# Altium footprint library Vowstar_MCU.PcbLib: 49 footprints (part 1 of 4)
Each footprint in its own frame and in the unit in brackets; x right, y up, seen from the top. Pads: shape width x height; smd on the part's side, far side on the other; paste and mask are expansions set on the pad; w line width, h text height; cw(c..) or ccw(c..) is an arc to the next point about the centre after c.
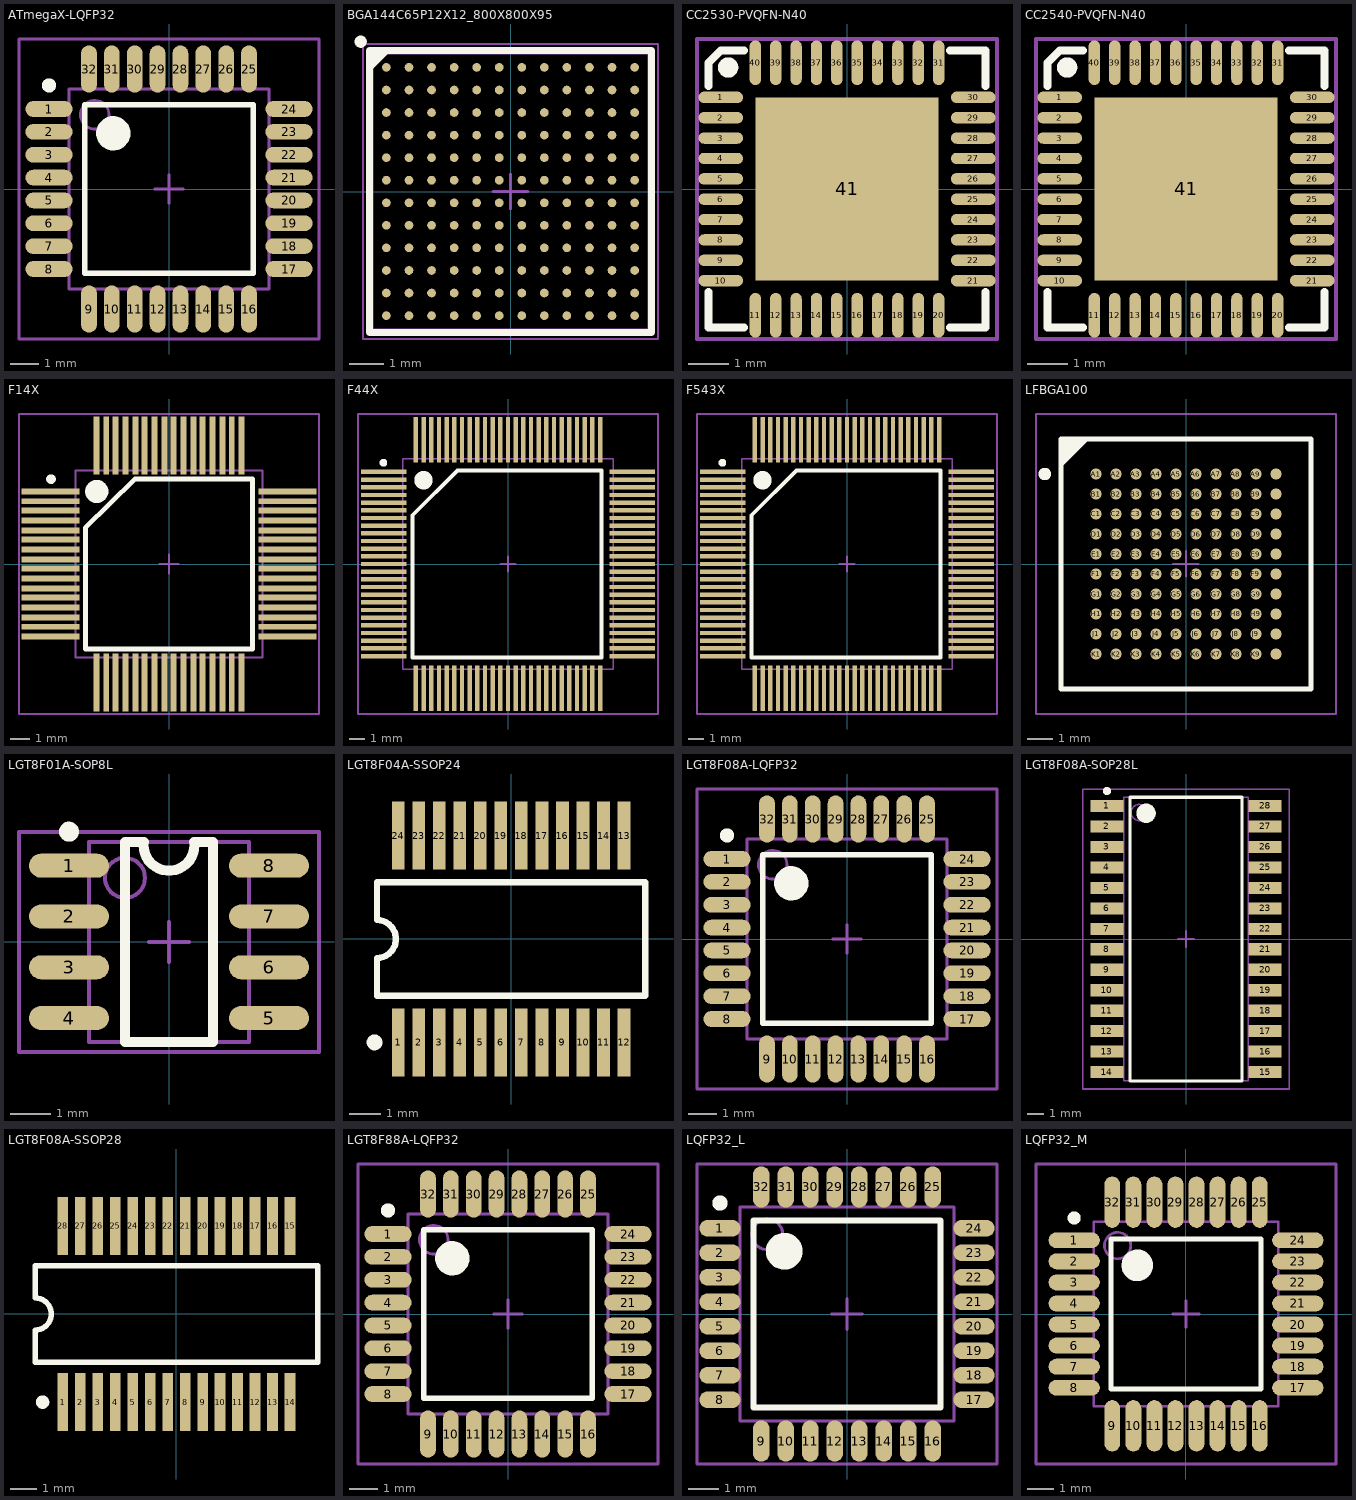
[diagram p0: the footprints below, top view; thin cyan lines are the x and y axes]

## ATmegaX-LQFP32 [mm] "Thin QFP, 32-Leads, Body 7x7mm, Pitch 0.8mm, IPC Medium Density"
height 1.2
pads (32):
  oval 1.65x0.55 smd: 1(-4.2,2.8) 2(-4.2,2) 3(-4.2,1.2) 4(-4.2,0.4) 5(-4.2,-0.4) 6(-4.2,-1.2) 7(-4.2,-2) 8(-4.2,-2.8) 17(4.2,-2.8) 18(4.2,-2) 19(4.2,-1.2) 20(4.2,-0.4) 21(4.2,0.4) 22(4.2,1.2) 23(4.2,2) 24(4.2,2.8)
  oval 0.55x1.65 smd: 9(-2.8,-4.2) 10(-2,-4.2) 11(-1.2,-4.2) 12(-0.4,-4.2) 13(0.4,-4.2) 14(1.2,-4.2) 15(2,-4.2) 16(2.8,-4.2) 25(2.8,4.2) 26(2,4.2) 27(1.2,4.2) 28(0.4,4.2) 29(-0.4,4.2) 30(-1.2,4.2) 31(-2,4.2) 32(-2.8,4.2)
Top Overlay:
  circle w0.25: c-4.2,3.625 r0.125
  circle w0.6: c-1.95,1.95 r0.3
  lines w0.2: -2.95,-2.95 -2.95,2.95 2.95,2.95 2.95,-2.95 -2.95,-2.95
Mechanical 13:
  circle w0.1: c-2.6,2.6 r0.5
  lines w0.1: -3.5,-3.5 -3.5,3.5 3.5,3.5 3.5,-3.5 -3.5,-3.5
Mechanical 15:
  lines w0.1: -0.5,0 0.5,0 ; 0,-0.5 0,0.5 ; -5.25,-5.25 -5.25,5.25 5.25,5.25 5.25,-5.25 -5.25,-5.25
3D body "User Library-LQFP-32.STEP": height 1.63, standoff -0.09, extent -4.5,-4.521 4.5,4.479

## BGA144C65P12X12_800X800X95 [mm] "BGA, 144-Leads, Body 8.00x8.00mmx0.95mm, Pitch 0.65mm"
height 0.96
pads (144):
  round 0.25 smd mask+0.051: A1(-3.575,3.575) A2(-2.925,3.575) A3(-2.275,3.575) A4(-1.625,3.575) A5(-0.975,3.575) A6(-0.325,3.575) A7(0.325,3.575) A8(0.975,3.575) A9(1.625,3.575) A10(2.275,3.575) A11(2.925,3.575) A12(3.575,3.575) B1(-3.575,2.925) B2(-2.925,2.925) B3(-2.275,2.925) B4(-1.625,2.925) B5(-0.975,2.925) B6(-0.325,2.925) B7(0.325,2.925) B8(0.975,2.925) B9(1.625,2.925) B10(2.275,2.925) B11(2.925,2.925) B12(3.575,2.925) C1(-3.575,2.275) C2(-2.925,2.275) C3(-2.275,2.275) C4(-1.625,2.275) C5(-0.975,2.275) C6(-0.325,2.275) C7(0.325,2.275) C8(0.975,2.275) C9(1.625,2.275) C10(2.275,2.275) C11(2.925,2.275) C12(3.575,2.275) D1(-3.575,1.625) D2(-2.925,1.625) D3(-2.275,1.625) D4(-1.625,1.625) D5(-0.975,1.625) D6(-0.325,1.625) D7(0.325,1.625) D8(0.975,1.625) D9(1.625,1.625) D10(2.275,1.625) D11(2.925,1.625) D12(3.575,1.625) E1(-3.575,0.975) E2(-2.925,0.975) E3(-2.275,0.975) E4(-1.625,0.975) E5(-0.975,0.975) E6(-0.325,0.975) E7(0.325,0.975) E8(0.975,0.975) E9(1.625,0.975) E10(2.275,0.975) E11(2.925,0.975) E12(3.575,0.975) F1(-3.575,0.325) F2(-2.925,0.325) F3(-2.275,0.325) F4(-1.625,0.325) F5(-0.975,0.325) F6(-0.325,0.325) F7(0.325,0.325) F8(0.975,0.325) F9(1.625,0.325) F10(2.275,0.325) F11(2.925,0.325) F12(3.575,0.325) G1(-3.575,-0.325) G2(-2.925,-0.325) G3(-2.275,-0.325) G4(-1.625,-0.325) G5(-0.975,-0.325) G6(-0.325,-0.325) G7(0.325,-0.325) G8(0.975,-0.325) G9(1.625,-0.325) G10(2.275,-0.325) G11(2.925,-0.325) G12(3.575,-0.325) H1(-3.575,-0.975) H2(-2.925,-0.975) H3(-2.275,-0.975) H4(-1.625,-0.975) H5(-0.975,-0.975) H6(-0.325,-0.975) H7(0.325,-0.975) H8(0.975,-0.975) H9(1.625,-0.975) H10(2.275,-0.975) H11(2.925,-0.975) H12(3.575,-0.975) J1(-3.575,-1.625) J2(-2.925,-1.625) J3(-2.275,-1.625) J4(-1.625,-1.625) J5(-0.975,-1.625) J6(-0.325,-1.625) J7(0.325,-1.625) J8(0.975,-1.625) J9(1.625,-1.625) J10(2.275,-1.625) J11(2.925,-1.625) J12(3.575,-1.625) K1(-3.575,-2.275) K2(-2.925,-2.275) K3(-2.275,-2.275) K4(-1.625,-2.275) K5(-0.975,-2.275) K6(-0.325,-2.275) K7(0.325,-2.275) K8(0.975,-2.275) K9(1.625,-2.275) K10(2.275,-2.275) K11(2.925,-2.275) K12(3.575,-2.275) L1(-3.575,-2.925) L2(-2.925,-2.925) L3(-2.275,-2.925) L4(-1.625,-2.925) L5(-0.975,-2.925) L6(-0.325,-2.925) L7(0.325,-2.925) L8(0.975,-2.925) L9(1.625,-2.925) L10(2.275,-2.925) L11(2.925,-2.925) L12(3.575,-2.925) M1(-3.575,-3.575) M2(-2.925,-3.575) M3(-2.275,-3.575) M4(-1.625,-3.575) M5(-0.975,-3.575) M6(-0.325,-3.575) M7(0.325,-3.575) M8(0.975,-3.575) M9(1.625,-3.575) M10(2.275,-3.575) M11(2.925,-3.575) M12(3.575,-3.575)
Top Overlay:
  circle w0.2: c-4.318,4.318 r0.076
  region: -4.064,4.064 -3.429,4.064 -4.064,3.429
  lines w0.2: -4.064,-4.064 4.064,-4.064 4.064,4.064 -4.064,4.064 -4.064,-4.064
Mechanical 13:
  lines w0.1: -4,-4 -4,4 4,4 4,-4 -4,-4
Mechanical 15:
  lines w0.05: -4.25,-4.25 4.25,-4.25 4.25,4.25 -4.25,4.25 -4.25,-4.25
  lines w0.1: -0.5,0 0.5,0 ; 0,-0.5 0,0.5
3D body "BGA144C65P12X12_800X800X95.step": height 0.95, standoff 0.01, extent -4,-4 4,4

## CC2530-PVQFN-N40 [mm] "CC2530"
pads (41):
  oval 1.1x0.28 smd: 1(-3.1,2.25) 2(-3.1,1.75) 3(-3.1,1.25) 4(-3.1,0.75) 5(-3.1,0.25) 6(-3.1,-0.25) 7(-3.1,-0.75) 8(-3.1,-1.25) 9(-3.1,-1.75) 10(-3.1,-2.25) 21(3.1,-2.25) 22(3.1,-1.75) 23(3.1,-1.25) 24(3.1,-0.75) 25(3.1,-0.25) 26(3.1,0.25) 27(3.1,0.75) 28(3.1,1.25) 29(3.1,1.75) 30(3.1,2.25)
  oval 0.28x1.1 smd: 11(-2.25,-3.1) 12(-1.75,-3.1) 13(-1.25,-3.1) 14(-0.75,-3.1) 15(-0.25,-3.1) 16(0.25,-3.1) 17(0.75,-3.1) 18(1.25,-3.1) 19(1.75,-3.1) 20(2.25,-3.1) 31(2.25,3.1) 32(1.75,3.1) 33(1.25,3.1) 34(0.75,3.1) 35(0.25,3.1) 36(-0.25,3.1) 37(-0.75,3.1) 38(-1.25,3.1) 39(-1.75,3.1) 40(-2.25,3.1)
  rect 4.5x4.5 smd: 41(0,0)
Top Overlay:
  circle w0.25: c-2.919,2.984 r0.125
  lines w0.2: -3.4,-2.53 -3.4,-3.4 -2.53,-3.4 ; -3.4,2.53 -3.4,3.1 -3.1,3.4 -2.53,3.4 ; 2.53,-3.4 3.4,-3.4 3.4,-2.53 ; 2.53,3.4 3.4,3.4 3.4,2.53
Mechanical 15:
  lines w0.1: -0.5,0 0.5,0 ; 0,-0.5 0,0.5 ; -3.683,-3.683 3.683,-3.683 3.683,3.683 -3.683,3.683 -3.683,-3.683
3D body "User Library-QFN-40.STEP": height 1.02, standoff -0.03, extent -3.048,-3.075 3.102,3.075

## CC2540-PVQFN-N40 [mm] "CC2540"
pads (41):
  oval 1.1x0.28 smd: 1(-3.1,2.25) 2(-3.1,1.75) 3(-3.1,1.25) 4(-3.1,0.75) 5(-3.1,0.25) 6(-3.1,-0.25) 7(-3.1,-0.75) 8(-3.1,-1.25) 9(-3.1,-1.75) 10(-3.1,-2.25) 21(3.1,-2.25) 22(3.1,-1.75) 23(3.1,-1.25) 24(3.1,-0.75) 25(3.1,-0.25) 26(3.1,0.25) 27(3.1,0.75) 28(3.1,1.25) 29(3.1,1.75) 30(3.1,2.25)
  oval 0.28x1.1 smd: 11(-2.25,-3.1) 12(-1.75,-3.1) 13(-1.25,-3.1) 14(-0.75,-3.1) 15(-0.25,-3.1) 16(0.25,-3.1) 17(0.75,-3.1) 18(1.25,-3.1) 19(1.75,-3.1) 20(2.25,-3.1) 31(2.25,3.1) 32(1.75,3.1) 33(1.25,3.1) 34(0.75,3.1) 35(0.25,3.1) 36(-0.25,3.1) 37(-0.75,3.1) 38(-1.25,3.1) 39(-1.75,3.1) 40(-2.25,3.1)
  rect 4.5x4.5 smd: 41(0,0)
Top Overlay:
  circle w0.25: c-2.919,2.984 r0.125
  lines w0.2: -3.4,-2.53 -3.4,-3.4 -2.53,-3.4 ; -3.4,2.53 -3.4,3.1 -3.1,3.4 -2.53,3.4 ; 2.53,-3.4 3.4,-3.4 3.4,-2.53 ; 2.53,3.4 3.4,3.4 3.4,2.53
Mechanical 15:
  lines w0.1: -0.5,0 0.5,0 ; 0,-0.5 0,0.5 ; -3.683,-3.683 -3.683,3.683 3.683,3.683 3.683,-3.683 -3.683,-3.683
3D body "User Library-QFN-40.STEP": height 1.02, standoff -0.03, extent -3.048,-3.075 3.102,3.075

## F14X [mil] "msp430f149"
height 41.34
pads (64):
  rect 118x12 smd: 1(-240.5,147.5) 2(-240.5,127.5) 3(-240.5,108.5) 4(-240.5,88.5) 5(-240.5,68.5) 6(-240.5,49.5) 7(-240.5,29.5) 8(-240.5,9.5) 9(-240.5,-9.5) 10(-240.5,-29.5) 11(-240.5,-49.5) 12(-240.5,-68.5) 13(-240.5,-88.5) 14(-240.5,-108.5) 15(-240.5,-127.5) 16(-240.5,-147.5) 33(240.5,-147.5) 34(240.5,-127.5) 35(240.5,-108.5) 36(240.5,-88.5) 37(240.5,-68.5) 38(240.5,-49.5) 39(240.5,-29.5) 40(240.5,-9.5) 41(240.5,9.5) 42(240.5,29.5) 43(240.5,49.5) 44(240.5,68.5) 45(240.5,88.5) 46(240.5,108.5) 47(240.5,127.5) 48(240.5,147.5)
  rect 12x118 smd: 17(-147.5,-240.5) 18(-127.5,-240.5) 19(-108.5,-240.5) 20(-88.5,-240.5) 21(-68.5,-240.5) 22(-49.5,-240.5) 23(-29.5,-240.5) 24(-9.5,-240.5) 25(9.5,-240.5) 26(29.5,-240.5) 27(49.5,-240.5) 28(68.5,-240.5) 29(88.5,-240.5) 30(108.5,-240.5) 31(127.5,-240.5) 32(147.5,-240.5) 49(147.5,240.5) 50(127.5,240.5) 51(108.5,240.5) 52(88.5,240.5) 53(68.5,240.5) 54(49.5,240.5) 55(29.5,240.5) 56(9.5,240.5) 57(-9.5,240.5) 58(-29.5,240.5) 59(-49.5,240.5) 60(-68.5,240.5) 61(-88.5,240.5) 62(-108.5,240.5) 63(-127.5,240.5) 64(-147.5,240.5)
Top Overlay:
  circle w9.84: c-239.92,172.5 r4.92
  circle w23.62: c-146.81,147.5 r11.81
  lines w10: -170,-172.5 170,-172.5 170,172.5 -69.24,172.5 -170,73.62 -170,-172.5
Mechanical 13:
  lines w3.94: -190,-190 -190,190 190,190 190,-190 -190,-190
Mechanical 15:
  lines w3.94: -19.69,0 19.68,0 ; 0,-19.68 0,19.69 ; -305,-305 -305,305 305,305 305,-305 -305,-305
3D body "User Library-QFP-64.step": height 53.15, standoff 0, extent -236.77,-237.54 236.77,236

## F44X [mm] "msp430f449"
height 1.45
pads (100):
  rect 2.997x0.29 smd: 1(-8.1,6) 2(-8.1,5.5) 3(-8.1,5) 4(-8.1,4.5) 5(-8.1,4) 6(-8.1,3.5) 7(-8.1,3) 8(-8.1,2.5) 9(-8.1,2) 10(-8.1,1.5) 11(-8.1,1) 12(-8.1,0.5) 13(-8.1,0) 14(-8.1,-0.5) 15(-8.1,-1) 16(-8.1,-1.5) 17(-8.1,-2) 18(-8.1,-2.5) 19(-8.1,-3) 20(-8.1,-3.5) 21(-8.1,-4) 22(-8.1,-4.5) 23(-8.1,-5) 24(-8.1,-5.5) 25(-8.1,-6) 51(8.1,-6) 52(8.1,-5.5) 53(8.1,-5) 54(8.1,-4.5) 55(8.1,-4) 56(8.1,-3.5) 57(8.1,-3) 58(8.1,-2.5) 59(8.1,-2) 60(8.1,-1.5) 61(8.1,-1) 62(8.1,-0.5) 63(8.1,0) 64(8.1,0.5) 65(8.1,1) 66(8.1,1.5) 67(8.1,2) 68(8.1,2.5) 69(8.1,3) 70(8.1,3.5) 71(8.1,4) 72(8.1,4.5) 73(8.1,5) 74(8.1,5.5) 75(8.1,6)
  rect 0.29x2.997 smd: 26(-6,-8.1) 27(-5.5,-8.1) 28(-5,-8.1) 29(-4.5,-8.1) 30(-4,-8.1) 31(-3.5,-8.1) 32(-3,-8.1) 33(-2.5,-8.1) 34(-2,-8.1) 35(-1.5,-8.1) 36(-1,-8.1) 37(-0.5,-8.1) 38(0,-8.1) 39(0.5,-8.1) 40(1,-8.1) 41(1.5,-8.1) 42(2,-8.1) 43(2.5,-8.1) 44(3,-8.1) 45(3.5,-8.1) 46(4,-8.1) 47(4.5,-8.1) 48(5,-8.1) 49(5.5,-8.1) 50(6,-8.1) 76(6,8.1) 77(5.5,8.1) 78(5,8.1) 79(4.5,8.1) 80(4,8.1) 81(3.5,8.1) 82(3,8.1) 83(2.5,8.1) 84(2,8.1) 85(1.5,8.1) 86(1,8.1) 87(0.5,8.1) 88(0,8.1) 89(-0.5,8.1) 90(-1,8.1) 91(-1.5,8.1) 92(-2,8.1) 93(-2.5,8.1) 94(-3,8.1) 95(-3.5,8.1) 96(-4,8.1) 97(-4.5,8.1) 98(-5,8.1) 99(-5.5,8.1) 100(-6,8.1)
Top Overlay:
  circle w0.25: c-8.126,6.604 r0.125
  circle w0.6: c-5.507,5.461 r0.3
  lines w0.254: -6.223,-6.096 6.096,-6.096 6.096,6.096 -3.302,6.096 -6.223,3.175 -6.223,-6.096
Mechanical 13:
  lines w0.1: -6.858,-6.858 -6.858,6.858 6.858,6.858 6.858,-6.858 -6.858,-6.858
Mechanical 15:
  lines w0.1: -0.5,0 0.5,0 ; 0,-0.5 0,0.5 ; -9.779,-9.779 9.779,-9.779 9.779,9.779 -9.779,9.779 -9.779,-9.779
3D body "User Library-QFP-100.step": height 2.6, standoff 0, extent -8.314,-8.382 8.314,8.246
3D body: height 0.25, standoff 0, extent -6.858,-6.858 6.858,6.858
3D body: height 0.28, standoff 0, extent -5.84,5.335 -5.334,5.841

## F543X [mm] "msp430f5438"
height 1.45
pads (100):
  rect 2.997x0.29 smd: 1(-8.1,6) 2(-8.1,5.5) 3(-8.1,5) 4(-8.1,4.5) 5(-8.1,4) 6(-8.1,3.5) 7(-8.1,3) 8(-8.1,2.5) 9(-8.1,2) 10(-8.1,1.5) 11(-8.1,1) 12(-8.1,0.5) 13(-8.1,0) 14(-8.1,-0.5) 15(-8.1,-1) 16(-8.1,-1.5) 17(-8.1,-2) 18(-8.1,-2.5) 19(-8.1,-3) 20(-8.1,-3.5) 21(-8.1,-4) 22(-8.1,-4.5) 23(-8.1,-5) 24(-8.1,-5.5) 25(-8.1,-6) 51(8.1,-6) 52(8.1,-5.5) 53(8.1,-5) 54(8.1,-4.5) 55(8.1,-4) 56(8.1,-3.5) 57(8.1,-3) 58(8.1,-2.5) 59(8.1,-2) 60(8.1,-1.5) 61(8.1,-1) 62(8.1,-0.5) 63(8.1,0) 64(8.1,0.5) 65(8.1,1) 66(8.1,1.5) 67(8.1,2) 68(8.1,2.5) 69(8.1,3) 70(8.1,3.5) 71(8.1,4) 72(8.1,4.5) 73(8.1,5) 74(8.1,5.5) 75(8.1,6)
  rect 0.29x2.997 smd: 26(-6,-8.1) 27(-5.5,-8.1) 28(-5,-8.1) 29(-4.5,-8.1) 30(-4,-8.1) 31(-3.5,-8.1) 32(-3,-8.1) 33(-2.5,-8.1) 34(-2,-8.1) 35(-1.5,-8.1) 36(-1,-8.1) 37(-0.5,-8.1) 38(0,-8.1) 39(0.5,-8.1) 40(1,-8.1) 41(1.5,-8.1) 42(2,-8.1) 43(2.5,-8.1) 44(3,-8.1) 45(3.5,-8.1) 46(4,-8.1) 47(4.5,-8.1) 48(5,-8.1) 49(5.5,-8.1) 50(6,-8.1) 76(6,8.1) 77(5.5,8.1) 78(5,8.1) 79(4.5,8.1) 80(4,8.1) 81(3.5,8.1) 82(3,8.1) 83(2.5,8.1) 84(2,8.1) 85(1.5,8.1) 86(1,8.1) 87(0.5,8.1) 88(0,8.1) 89(-0.5,8.1) 90(-1,8.1) 91(-1.5,8.1) 92(-2,8.1) 93(-2.5,8.1) 94(-3,8.1) 95(-3.5,8.1) 96(-4,8.1) 97(-4.5,8.1) 98(-5,8.1) 99(-5.5,8.1) 100(-6,8.1)
Top Overlay:
  circle w0.6: c-5.507,5.461 r0.3
  circle w0.25: c-8.126,6.604 r0.125
  lines w0.254: -6.223,-6.096 -6.223,3.175 -3.302,6.096 6.096,6.096 6.096,-6.096 -6.223,-6.096
Mechanical 13:
  lines w0.1: -6.858,-6.858 6.858,-6.858 6.858,6.858 -6.858,6.858 -6.858,-6.858
Mechanical 15:
  lines w0.1: -0.5,0 0.5,0 ; 0,-0.5 0,0.5 ; -9.779,-9.779 -9.779,9.779 9.779,9.779 9.779,-9.779 -9.779,-9.779
3D body "User Library-QFP-100.step": height 2.6, standoff 0, extent -8.314,-8.382 8.314,8.246
3D body: height 0.28, standoff 0, extent -5.84,5.335 -5.334,5.841

## LFBGA100 [mm] "BGA, 100-Leads, Body 10x10mm, Pitch 0.8mm"
height 1.7
pads (100):
  round 0.45 smd: A1(-3.6,3.6) A2(-2.8,3.6) A3(-2,3.6) A4(-1.2,3.6) A5(-0.4,3.6) A6(0.4,3.6) A7(1.2,3.6) A8(2,3.6) A9(2.8,3.6) A10(3.6,3.6) B1(-3.6,2.8) B2(-2.8,2.8) B3(-2,2.8) B4(-1.2,2.8) B5(-0.4,2.8) B6(0.4,2.8) B7(1.2,2.8) B8(2,2.8) B9(2.8,2.8) B10(3.6,2.8) C1(-3.6,2) C2(-2.8,2) C3(-2,2) C4(-1.2,2) C5(-0.4,2) C6(0.4,2) C7(1.2,2) C8(2,2) C9(2.8,2) C10(3.6,2) D1(-3.6,1.2) D2(-2.8,1.2) D3(-2,1.2) D4(-1.2,1.2) D5(-0.4,1.2) D6(0.4,1.2) D7(1.2,1.2) D8(2,1.2) D9(2.8,1.2) D10(3.6,1.2) E1(-3.6,0.4) E2(-2.8,0.4) E3(-2,0.4) E4(-1.2,0.4) E5(-0.4,0.4) E6(0.4,0.4) E7(1.2,0.4) E8(2,0.4) E9(2.8,0.4) E10(3.6,0.4) F1(-3.6,-0.4) F2(-2.8,-0.4) F3(-2,-0.4) F4(-1.2,-0.4) F5(-0.4,-0.4) F6(0.4,-0.4) F7(1.2,-0.4) F8(2,-0.4) F9(2.8,-0.4) F10(3.6,-0.4) G1(-3.6,-1.2) G2(-2.8,-1.2) G3(-2,-1.2) G4(-1.2,-1.2) G5(-0.4,-1.2) G6(0.4,-1.2) G7(1.2,-1.2) G8(2,-1.2) G9(2.8,-1.2) G10(3.6,-1.2) H1(-3.6,-2) H2(-2.8,-2) H3(-2,-2) H4(-1.2,-2) H5(-0.4,-2) H6(0.4,-2) H7(1.2,-2) H8(2,-2) H9(2.8,-2) H10(3.6,-2) J1(-3.6,-2.8) J2(-2.8,-2.8) J3(-2,-2.8) J4(-1.2,-2.8) J5(-0.4,-2.8) J6(0.4,-2.8) J7(1.2,-2.8) J8(2,-2.8) J9(2.8,-2.8) J10(3.6,-2.8) K1(-3.6,-3.6) K2(-2.8,-3.6) K3(-2,-3.6) K4(-1.2,-3.6) K5(-0.4,-3.6) K6(0.4,-3.6) K7(1.2,-3.6) K8(2,-3.6) K9(2.8,-3.6) K10(3.6,-3.6)
Top Overlay:
  circle w0.25: c-5.65,3.6 r0.125
  region: -4,5 -5,4 -5,5
  lines w0.2: -5,4 -4,5 ; -5,-5 -5,5 5,5 5,-5 -5,-5
Mechanical 13:
  lines w0.1: -5,-5 -5,5 5,5 5,-5 -5,-5
Mechanical 15:
  lines w0.1: -0.5,0 0.5,0 ; 0,-0.5 0,0.5 ; -6,-6 -6,6 6,6 6,-6 -6,-6
3D body: height 1.7, standoff 0, extent -5,-5 5,5

## LGT8F01A-SOP8L [mm] "LGT8F01A-SOP8L"
height 1.5
pads (8):
  oval 2x0.6 smd: 1(-2.5,1.905) 2(-2.5,0.635) 3(-2.5,-0.635) 4(-2.5,-1.905) 5(2.5,-1.905) 6(2.5,-0.635) 7(2.5,0.635) 8(2.5,1.905)
Top Overlay:
  circle w0.25: c-2.5,2.755 r0.125
  lines w0.254: -1.1,-2.5 1.1,-2.5 ; -1.1,-2.489 -1.1,2.5 -0.626,2.5 ; -0.635,2.413 ccw(c0,2.413) 0.635,2.413 ; 0.626,2.5 1.1,2.5 1.1,-2.489
Mechanical 13:
  circle w0.1: c-1.1,1.6 r0.5
  lines w0.1: -2,-2.5 -2,2.5 2,2.5 2,-2.5 -2,-2.5
Mechanical 15:
  lines w0.1: -0.5,0 0.5,0 ; 0,-0.5 0,0.5 ; -3.75,-2.75 -3.75,2.75 3.75,2.75 3.75,-2.75 -3.75,-2.75
3D body "User Library-SOP-8.step": height 1.45, standoff 0, extent -2.921,-2.451 2.857,2.451

## LGT8F04A-SSOP24 [mm] "SSOP, Plastic; 24 Leads; Body Width 5.3 mm; Pitch 0.65 mm"
height 2
pads (24):
  rect 0.4x2.15 smd: 1(-3.575,-3.275) 2(-2.925,-3.275) 3(-2.275,-3.275) 4(-1.625,-3.275) 5(-0.975,-3.275) 6(-0.325,-3.275) 7(0.325,-3.275) 8(0.975,-3.275) 9(1.625,-3.275) 10(2.275,-3.275) 11(2.925,-3.275) 12(3.575,-3.275) 13(3.575,3.275) 14(2.925,3.275) 15(2.275,3.275) 16(1.625,3.275) 17(0.975,3.275) 18(0.325,3.275) 19(-0.325,3.275) 20(-0.975,3.275) 21(-1.625,3.275) 22(-2.275,3.275) 23(-2.925,3.275) 24(-3.575,3.275)
Top Overlay:
  circle w0.25: c-4.325,-3.275 r0.125
  lines w0.2: -4.25,-1.8 4.25,-1.8 4.25,1.8 -4.25,1.8 -4.25,0.6 cw(c-4.25,0) -4.25,-0.6 -4.25,-1.8

## LGT8F08A-LQFP32 [mm] "32-Pin Thin Quad Flat Pack 0.8 mm Pitch, IPC Medium Density"
height 1.2
pads (32):
  oval 1.65x0.55 smd: 1(-4.2,2.8) 2(-4.2,2) 3(-4.2,1.2) 4(-4.2,0.4) 5(-4.2,-0.4) 6(-4.2,-1.2) 7(-4.2,-2) 8(-4.2,-2.8) 17(4.2,-2.8) 18(4.2,-2) 19(4.2,-1.2) 20(4.2,-0.4) 21(4.2,0.4) 22(4.2,1.2) 23(4.2,2) 24(4.2,2.8)
  oval 0.55x1.65 smd: 9(-2.8,-4.2) 10(-2,-4.2) 11(-1.2,-4.2) 12(-0.4,-4.2) 13(0.4,-4.2) 14(1.2,-4.2) 15(2,-4.2) 16(2.8,-4.2) 25(2.8,4.2) 26(2,4.2) 27(1.2,4.2) 28(0.4,4.2) 29(-0.4,4.2) 30(-1.2,4.2) 31(-2,4.2) 32(-2.8,4.2)
Top Overlay:
  circle w0.25: c-4.2,3.625 r0.125
  circle w0.6: c-1.95,1.95 r0.3
  lines w0.2: -2.95,-2.95 -2.95,2.95 2.95,2.95 2.95,-2.95 -2.95,-2.95
Mechanical 13:
  circle w0.1: c-2.6,2.6 r0.5
  lines w0.1: -3.5,-3.5 -3.5,3.5 3.5,3.5 3.5,-3.5 -3.5,-3.5
Mechanical 15:
  lines w0.1: -0.5,0 0.5,0 ; 0,-0.5 0,0.5 ; -5.25,-5.25 -5.25,5.25 5.25,5.25 5.25,-5.25 -5.25,-5.25
3D body "User Library-LQFP-32.STEP": height 1.63, standoff -0.09, extent -4.5,-4.521 4.5,4.479

## LGT8F08A-SOP28L [mm] "SOP, 28-Leads, Body 17.6x7.7mm (max), Pitch 1.27mm, IPC Low Density"
height 2.8
pads (28):
  rect 2.05x0.75 smd: 1(-4.9,8.255) 2(-4.9,6.985) 3(-4.9,5.715) 4(-4.9,4.445) 5(-4.9,3.175) 6(-4.9,1.905) 7(-4.9,0.635) 8(-4.9,-0.635) 9(-4.9,-1.905) 10(-4.9,-3.175) 11(-4.9,-4.445) 12(-4.9,-5.715) 13(-4.9,-6.985) 14(-4.9,-8.255) 15(4.9,-8.255) 16(4.9,-6.985) 17(4.9,-5.715) 18(4.9,-4.445) 19(4.9,-3.175) 20(4.9,-1.905) 21(4.9,-0.635) 22(4.9,0.635) 23(4.9,1.905) 24(4.9,3.175) 25(4.9,4.445) 26(4.9,5.715) 27(4.9,6.985) 28(4.9,8.255)
Top Overlay:
  circle w0.6: c-2.475,7.8 r0.3
  circle w0.25: c-4.9,9.18 r0.125
  lines w0.2: -3.475,-8.8 3.475,-8.8 3.475,8.8 -3.475,8.8 -3.475,-8.8
Mechanical 13:
  circle w0.1: c-2.9,7.85 r0.5
  lines w0.1: -3.85,-8.8 3.85,-8.8 3.85,8.8 -3.85,8.8 -3.85,-8.8
Mechanical 15:
  lines w0.1: -0.5,0 0.5,0 ; 0,-0.5 0,0.5 ; -6.4,-9.3 6.4,-9.3 6.4,9.3 -6.4,9.3 -6.4,-9.3
3D body: height 2.8, standoff 0.2, extent -3.85,-8.8 3.85,8.8

## LGT8F08A-SSOP28 [mm] "SSOP, Plastic; 28 Leads; Body Width 5.3 mm; Pitch 0.65 mm"
height 2
pads (28):
  rect 0.4x2.15 smd: 1(-4.225,-3.275) 2(-3.575,-3.275) 3(-2.925,-3.275) 4(-2.275,-3.275) 5(-1.625,-3.275) 6(-0.975,-3.275) 7(-0.325,-3.275) 8(0.325,-3.275) 9(0.975,-3.275) 10(1.625,-3.275) 11(2.275,-3.275) 12(2.925,-3.275) 13(3.575,-3.275) 14(4.225,-3.275) 15(4.225,3.275) 16(3.575,3.275) 17(2.925,3.275) 18(2.275,3.275) 19(1.625,3.275) 20(0.975,3.275) 21(0.325,3.275) 22(-0.325,3.275) 23(-0.975,3.275) 24(-1.625,3.275) 25(-2.275,3.275) 26(-2.925,3.275) 27(-3.575,3.275) 28(-4.225,3.275)
Top Overlay:
  circle w0.25: c-4.975,-3.275 r0.125
  lines w0.2: -5.25,-1.8 5.25,-1.8 5.25,1.8 -5.25,1.8 -5.25,0.6 cw(c-5.25,0) -5.25,-0.6 -5.25,-1.8

## LGT8F88A-LQFP32 [mm] "32-Pin Thin Quad Flat Pack 0.8 mm Pitch, IPC Medium Density"
height 1.2
pads (32):
  oval 1.65x0.55 smd: 1(-4.2,2.8) 2(-4.2,2) 3(-4.2,1.2) 4(-4.2,0.4) 5(-4.2,-0.4) 6(-4.2,-1.2) 7(-4.2,-2) 8(-4.2,-2.8) 17(4.2,-2.8) 18(4.2,-2) 19(4.2,-1.2) 20(4.2,-0.4) 21(4.2,0.4) 22(4.2,1.2) 23(4.2,2) 24(4.2,2.8)
  oval 0.55x1.65 smd: 9(-2.8,-4.2) 10(-2,-4.2) 11(-1.2,-4.2) 12(-0.4,-4.2) 13(0.4,-4.2) 14(1.2,-4.2) 15(2,-4.2) 16(2.8,-4.2) 25(2.8,4.2) 26(2,4.2) 27(1.2,4.2) 28(0.4,4.2) 29(-0.4,4.2) 30(-1.2,4.2) 31(-2,4.2) 32(-2.8,4.2)
Top Overlay:
  circle w0.6: c-1.95,1.95 r0.3
  circle w0.25: c-4.2,3.625 r0.125
  lines w0.2: -2.95,-2.95 2.95,-2.95 2.95,2.95 -2.95,2.95 -2.95,-2.95
Mechanical 13:
  circle w0.1: c-2.6,2.6 r0.5
  lines w0.1: -3.5,-3.5 3.5,-3.5 3.5,3.5 -3.5,3.5 -3.5,-3.5
Mechanical 15:
  lines w0.1: -0.5,0 0.5,0 ; 0,-0.5 0,0.5 ; -5.25,-5.25 5.25,-5.25 5.25,5.25 -5.25,5.25 -5.25,-5.25
3D body "User Library-LQFP-32.STEP": height 1.63, standoff -0.09, extent -4.5,-4.521 4.5,4.479

## LQFP32_L [mm] "Thin QFP, 32-Leads, Body 7x7mm, Pitch 0.8mm, IPC High Density"
height 1.2
pads (32):
  oval 1.35x0.55 smd: 1(-4.15,2.8) 2(-4.15,2) 3(-4.15,1.2) 4(-4.15,0.4) 5(-4.15,-0.4) 6(-4.15,-1.2) 7(-4.15,-2) 8(-4.15,-2.8) 17(4.15,-2.8) 18(4.15,-2) 19(4.15,-1.2) 20(4.15,-0.4) 21(4.15,0.4) 22(4.15,1.2) 23(4.15,2) 24(4.15,2.8)
  oval 0.55x1.35 smd: 9(-2.8,-4.15) 10(-2,-4.15) 11(-1.2,-4.15) 12(-0.4,-4.15) 13(0.4,-4.15) 14(1.2,-4.15) 15(2,-4.15) 16(2.8,-4.15) 25(2.8,4.15) 26(2,4.15) 27(1.2,4.15) 28(0.4,4.15) 29(-0.4,4.15) 30(-1.2,4.15) 31(-2,4.15) 32(-2.8,4.15)
Top Overlay:
  circle w0.25: c-4.15,3.625 r0.125
  circle w0.6: c-2.05,2.05 r0.3
  lines w0.2: -3.05,-3.05 -3.05,3.05 3.05,3.05 3.05,-3.05 -3.05,-3.05
Mechanical 13:
  circle w0.1: c-2.6,2.6 r0.5
  lines w0.1: -3.5,-3.5 -3.5,3.5 3.5,3.5 3.5,-3.5 -3.5,-3.5
Mechanical 15:
  lines w0.1: -0.5,0 0.5,0 ; 0,-0.5 0,0.5 ; -4.9,-4.9 -4.9,4.9 4.9,4.9 4.9,-4.9 -4.9,-4.9
3D body "User Library-LQFP-32.STEP": height 1.63, standoff -0.09, extent -4.5,-4.521 4.5,4.479

## LQFP32_M [mm] "Thin QFP, 32-Leads, Body 7x7mm, Pitch 0.8mm, IPC Low Density"
height 1.2
pads (32):
  oval 1.95x0.6 smd: 1(-4.25,2.8) 2(-4.25,2) 3(-4.25,1.2) 4(-4.25,0.4) 5(-4.25,-0.4) 6(-4.25,-1.2) 7(-4.25,-2) 8(-4.25,-2.8) 17(4.25,-2.8) 18(4.25,-2) 19(4.25,-1.2) 20(4.25,-0.4) 21(4.25,0.4) 22(4.25,1.2) 23(4.25,2) 24(4.25,2.8)
  oval 0.6x1.95 smd: 9(-2.8,-4.25) 10(-2,-4.25) 11(-1.2,-4.25) 12(-0.4,-4.25) 13(0.4,-4.25) 14(1.2,-4.25) 15(2,-4.25) 16(2.8,-4.25) 25(2.8,4.25) 26(2,4.25) 27(1.2,4.25) 28(0.4,4.25) 29(-0.4,4.25) 30(-1.2,4.25) 31(-2,4.25) 32(-2.8,4.25)
Top Overlay:
  circle w0.25: c-4.25,3.65 r0.125
  circle w0.6: c-1.85,1.85 r0.3
  lines w0.2: -2.85,-2.85 -2.85,2.85 2.85,2.85 2.85,-2.85 -2.85,-2.85
Mechanical 13:
  circle w0.1: c-2.6,2.6 r0.5
  lines w0.1: -3.5,-3.5 -3.5,3.5 3.5,3.5 3.5,-3.5 -3.5,-3.5
Mechanical 15:
  lines w0.1: -0.5,0 0.5,0 ; 0,-0.5 0,0.5 ; -5.7,-5.7 -5.7,5.7 5.7,5.7 5.7,-5.7 -5.7,-5.7
3D body "User Library-LQFP-32.STEP": height 1.63, standoff -0.09, extent -4.5,-4.521 4.5,4.479